# EAGLE library part SN74LVC2T45YZPR (library SN74LVC2T45YZPR)
DUAL-BIT DUAL-SUPPLY BUS TRANSCEIVER Buy Part <https://snapeda.com/parts/SN74LVC2T45YZPR/Texas%20Instruments/view-part/?ref=eda>
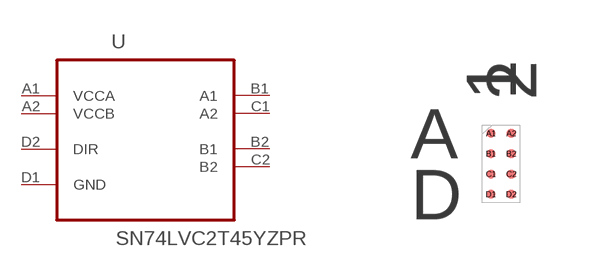
[diagram p0: symbol with the pads of BGA8C50P2X4_190X90X50; footprint BGA8C50P2X4_190X90X50]

Designator prefix U

## SN74LVC2T45YZPR (Availability: Warning; Description: 2-Bit Dual Supply Transceiver with Configurable Voltage-Level Shifting and 3-State Outputs 8-DSBGA -40 to 85; MF: Texas Instruments; MP: SN74LVC2T45YZPR; Mouser-Purchase-URL: https://snapeda.com/shop?store=Mouser&id=317071; Package: DSBGA-8 Texas Instruments; Price: None; Texas_Instruments-Purchase-URL: https://snapeda.com/shop?store=Texas+Instruments&id=317071)  [BGA8C50P2X4_190X90X50]
A1  VCCA  pwr
A2  VCCB  pwr
B1  A1
B2  B1
C1  A2
C2  B2
D1  GND  pas
D2  DIR  in

## Footprint BGA8C50P2X4_190X90X50 (pad centres in mm)
smd 0.229 x 0.229: A1 -0.254,0.762; A2 0.254,0.762; B1 -0.254,0.254; B2 0.254,0.254; C1 -0.254,-0.254; C2 0.254,-0.254; D1 -0.254,-0.762; D2 0.254,-0.762